# Altium footprint library TRIMPOT.PCBLIB: 1 footprints
Each footprint in its own frame and in the unit in brackets; x right, y up, seen from the top. Pads: shape width x height; smd on the part's side, far side on the other; paste and mask are expansions set on the pad; w line width, h text height; cw(c..) or ccw(c..) is an arc to the next point about the centre after c.
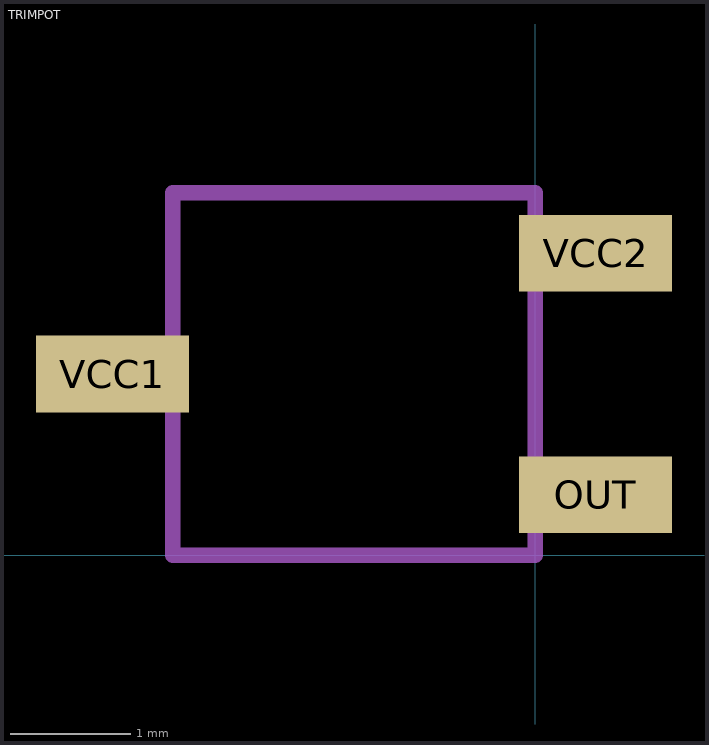
[diagram p0: the footprint, top view; thin cyan lines are the x and y axes]

## TRIMPOT [mil]
pads (3):
  rect 50x25 smd: OUT(19.69,19.69) VCC1(-137.8,59.06) VCC2(19.69,98.43)
tPlace:
  lines w5: -118.11,0 -118.11,118.11 0,118.11 0,0 -118.11,0